# Altium footprint library MEMS.PcbLib: 1 footprints
Each footprint in its own frame and in the unit in brackets; x right, y up, seen from the top. Pads: shape width x height; smd on the part's side, far side on the other; paste and mask are expansions set on the pad; w line width, h text height; cw(c..) or ccw(c..) is an arc to the next point about the centre after c.
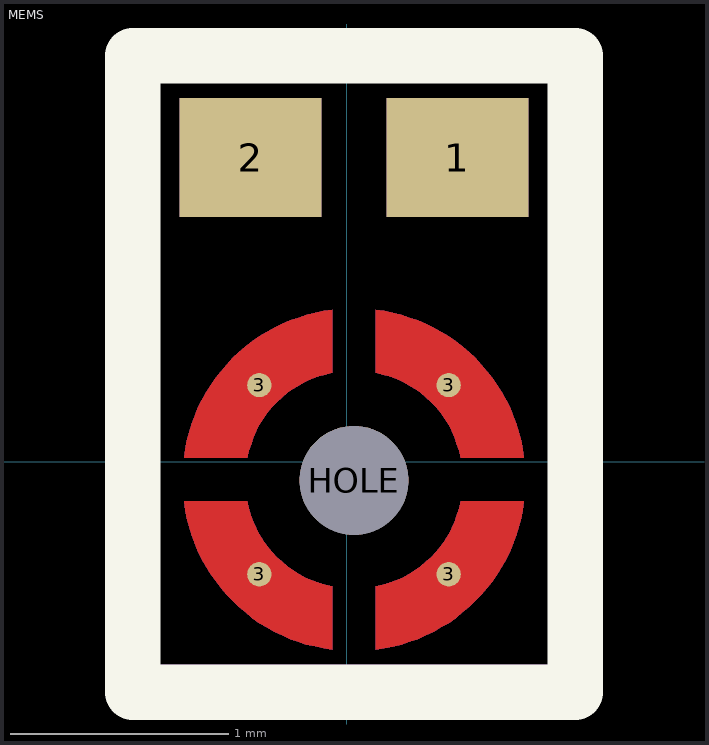
[diagram p0: the footprint, top view; thin cyan lines are the x and y axes]

## MEMS [mil]
pads (7):
  rect 25.6x21.5 smd: 1(20,55) 2(-17.4,55)
  round 4.4 smd: 3(-15.8,-20.3) 3(-15.8,13.9) 3(18.4,-20.3) 3(18.4,13.9)
  round 19.68 hole 19.68 unplated: HOLE(1.3,-3.32)
Top Layer:
  region: 5.2,-33.9 6.8,-33.7 8.3,-33.4 9.8,-33 11.3,-32.5 12.8,-32 14.3,-31.3 15.7,-30.7 17,-29.9 18.4,-29.1 19.7,-28.2 20.9,-27.2 22.1,-26.2 23.2,-25.1 24.3,-24 25.3,-22.8 26.3,-21.6 27.2,-20.3 28,-18.9 28.8,-17.6 29.5,-16.1 30.1,-14.7 30.6,-13.2 31.1,-11.7 31.5,-10.2 31.8,-8.7 32,-7.1 20.6,-7.1 20.3,-8.4 19.9,-9.6 19.5,-10.8 19,-12 18.4,-13.1 17.7,-14.2 17,-15.2 16.2,-16.2 15.3,-17.2 14.3,-18 13.4,-18.8 12.3,-19.6 11.2,-20.3 10.1,-20.9 8.9,-21.4 7.7,-21.8 6.5,-22.2 5.2,-22.5
  region: -29.4,-7.1 -29.2,-8.7 -28.9,-10.2 -28.5,-11.7 -28,-13.2 -27.5,-14.7 -26.9,-16.1 -26.2,-17.6 -25.4,-18.9 -24.6,-20.3 -23.7,-21.5 -22.7,-22.8 -21.7,-24 -20.6,-25.1 -19.5,-26.2 -18.3,-27.2 -17.1,-28.2 -15.8,-29.1 -14.5,-29.9 -13.1,-30.7 -11.7,-31.3 -10.2,-32 -8.8,-32.5 -7.3,-33 -5.7,-33.3 -4.2,-33.7 -2.6,-33.9 -2.6,-22.5 -3.9,-22.2 -5.1,-21.8 -6.3,-21.4 -7.5,-20.9 -8.6,-20.3 -9.7,-19.6 -10.8,-18.8 -11.7,-18 -12.7,-17.2 -13.6,-16.2 -14.4,-15.2 -15.1,-14.2 -15.8,-13.1 -16.4,-12 -16.9,-10.8 -17.4,-9.6 -17.7,-8.4 -18,-7.1
  region: -2.6,27.5 -4.2,27.3 -5.7,27 -7.2,26.6 -8.7,26.1 -10.2,25.6 -11.7,25 -13.1,24.3 -14.4,23.5 -15.8,22.7 -17.1,21.8 -18.3,20.9 -19.5,19.8 -20.6,18.8 -21.7,17.6 -22.7,16.4 -23.7,15.2 -24.6,13.9 -25.4,12.6 -26.2,11.2 -26.9,9.8 -27.5,8.3 -28,6.9 -28.5,5.4 -28.9,3.8 -29.2,2.3 -29.4,0.8 -18,0.8 -17.7,2 -17.3,3.2 -16.9,4.4 -16.4,5.6 -15.8,6.7 -15.1,7.8 -14.4,8.9 -13.6,9.9 -12.7,10.8 -11.7,11.7 -10.8,12.5 -9.7,13.2 -8.6,13.9 -7.5,14.5 -6.3,15 -5.1,15.5 -3.9,15.8 -2.6,16.1
  region: 32,0.8 31.8,2.3 31.5,3.8 31.1,5.4 30.6,6.9 30.1,8.3 29.5,9.8 28.8,11.2 28,12.6 27.2,13.9 26.3,15.2 25.3,16.4 24.3,17.6 23.2,18.8 22.1,19.8 20.9,20.9 19.7,21.8 18.4,22.7 17,23.5 15.7,24.3 14.3,25 12.8,25.6 11.3,26.1 9.8,26.6 8.3,27 6.8,27.3 5.2,27.5 5.2,16.1 6.5,15.8 7.7,15.5 8.9,15 10.1,14.5 11.2,13.9 12.3,13.2 13.4,12.5 14.3,11.7 15.3,10.8 16.2,9.9 17,8.9 17.7,7.8 18.4,6.7 19,5.6 19.5,4.4 19.9,3.2 20.3,2 20.6,0.8
Top Overlay:
  lines w10: -38.7,-41.6 41.3,-41.6 41.3,73.4 -38.7,73.4 -38.7,-41.6
Mechanical 6:
  lines w2: -35.1,-37.6 -35.1,70.6 37.7,70.6 37.7,-37.6 -35.1,-37.6
Mechanical 8:
  region: 40.1,70.6 39.7,69.4 38.7,68.5 37.4,68.3 36.2,68.9 35.5,70 35.5,71.3 36.2,72.4 37.4,73 38.7,72.8 39.7,71.9
Mechanical 9:
  drawing of 6 lines, arcs and shapes, not listed